# Altium footprint library HUB_PcbLib1.PcbLib: 7 footprints
Each footprint in its own frame and in the unit in brackets; x right, y up, seen from the top. Pads: shape width x height; smd on the part's side, far side on the other; paste and mask are expansions set on the pad; w line width, h text height; cw(c..) or ccw(c..) is an arc to the next point about the centre after c.
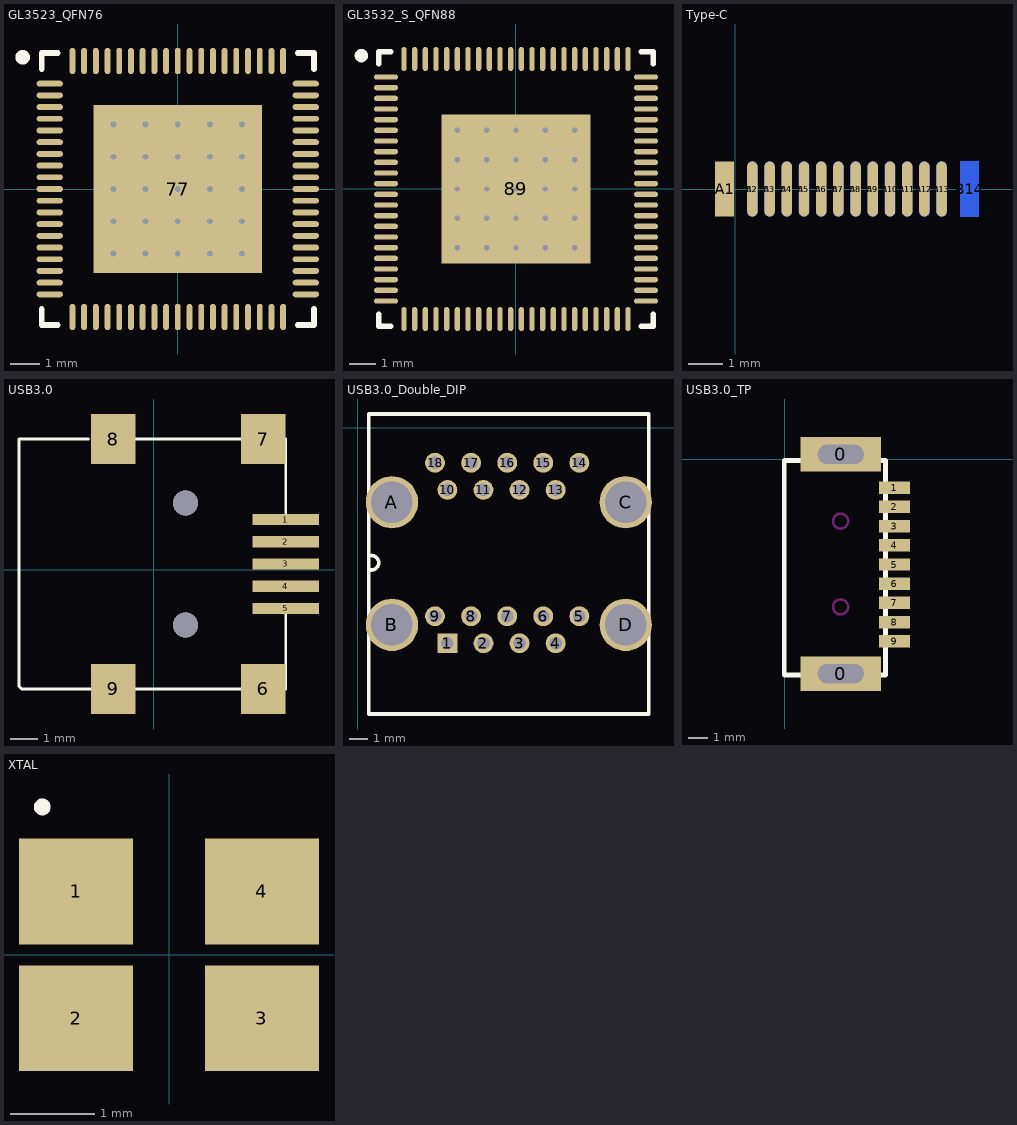
[diagram p0: the footprints below, top view; thin cyan lines are the x and y axes]

## GL3523_QFN76 [mm] "QFN, 76-Leads, Body 9.00x9.00mm, Pitch 0.40mm, Thermal Pad 5.75x5.75mm, IPC Medium Density"
height 0.9
pads (77):
  oval 0.9x0.2 smd: 1(-4.375,3.6) 2(-4.375,3.2) 3(-4.375,2.8) 4(-4.375,2.4) 5(-4.375,2) 6(-4.375,1.6) 7(-4.375,1.2) 8(-4.375,0.8) 9(-4.375,0.4) 10(-4.375,0) 11(-4.375,-0.4) 12(-4.375,-0.8) 13(-4.375,-1.2) 14(-4.375,-1.6) 15(-4.375,-2) 16(-4.375,-2.4) 17(-4.375,-2.8) 18(-4.375,-3.2) 19(-4.375,-3.6) 39(4.375,-3.6) 40(4.375,-3.2) 41(4.375,-2.8) 42(4.375,-2.4) 43(4.375,-2) 44(4.375,-1.6) 45(4.375,-1.2) 46(4.375,-0.8) 47(4.375,-0.4) 48(4.375,0) 49(4.375,0.4) 50(4.375,0.8) 51(4.375,1.2) 52(4.375,1.6) 53(4.375,2) 54(4.375,2.4) 55(4.375,2.8) 56(4.375,3.2) 57(4.375,3.6)
  oval 0.2x0.9 smd: 20(-3.6,-4.375) 21(-3.2,-4.375) 22(-2.8,-4.375) 23(-2.4,-4.375) 24(-2,-4.375) 25(-1.6,-4.375) 26(-1.2,-4.375) 27(-0.8,-4.375) 28(-0.4,-4.375) 29(0,-4.375) 30(0.4,-4.375) 31(0.8,-4.375) 32(1.2,-4.375) 33(1.6,-4.375) 34(2,-4.375) 35(2.4,-4.375) 36(2.8,-4.375) 37(3.2,-4.375) 38(3.6,-4.375) 58(3.6,4.375) 59(3.2,4.375) 60(2.8,4.375) 61(2.4,4.375) 62(2,4.375) 63(1.6,4.375) 64(1.2,4.375) 65(0.8,4.375) 66(0.4,4.375) 67(0,4.375) 68(-0.4,4.375) 69(-0.8,4.375) 70(-1.2,4.375) 71(-1.6,4.375) 72(-2,4.375) 73(-2.4,4.375) 74(-2.8,4.375) 75(-3.2,4.375) 76(-3.6,4.375)
  rect 5.75x5.75 smd: 77(0,0)
via -2.2,2.2 diameter 0.5 hole 0.2
via -1.1,2.2 diameter 0.5 hole 0.2
via 0,2.2 diameter 0.5 hole 0.2
via 1.1,2.2 diameter 0.5 hole 0.2
via 2.2,2.2 diameter 0.5 hole 0.2
via -2.2,1.1 diameter 0.5 hole 0.2
via -1.1,1.1 diameter 0.5 hole 0.2
via 0,1.1 diameter 0.5 hole 0.2
via 1.1,1.1 diameter 0.5 hole 0.2
via 2.2,1.1 diameter 0.5 hole 0.2
via -2.2,0 diameter 0.5 hole 0.2
via -1.1,0 diameter 0.5 hole 0.2
via 0,0 diameter 0.5 hole 0.2
via 1.1,0 diameter 0.5 hole 0.2
via 2.2,0 diameter 0.5 hole 0.2
via -2.2,-1.1 diameter 0.5 hole 0.2
via -1.1,-1.1 diameter 0.5 hole 0.2
via 0,-1.1 diameter 0.5 hole 0.2
via 1.1,-1.1 diameter 0.5 hole 0.2
via 2.2,-1.1 diameter 0.5 hole 0.2
via -2.2,-2.2 diameter 0.5 hole 0.2
via -1.1,-2.2 diameter 0.5 hole 0.2
via 0,-2.2 diameter 0.5 hole 0.2
via 1.1,-2.2 diameter 0.5 hole 0.2
via 2.2,-2.2 diameter 0.5 hole 0.2
Top Overlay:
  circle w0.25: c-5.3,4.5 r0.125
  lines w0.2: -4.65,-4.1 -4.65,-4.65 -4.1,-4.65 ; -4.65,4.1 -4.65,4.65 -4.1,4.65 ; 4.1,-4.65 4.65,-4.65 4.65,-4.1 ; 4.1,4.65 4.65,4.65 4.65,4.1

## GL3532_S_QFN88 [mm] "QFN, 88-Leads, Body 10.00x10.00mm, Pitch 0.40mm, Thermal Pad 5.60x5.60mm, IPC Medium Density"
height 0.75
pads (89):
  oval 0.9x0.2 smd: 1(-4.875,4.2) 2(-4.875,3.8) 3(-4.875,3.4) 4(-4.875,3) 5(-4.875,2.6) 6(-4.875,2.2) 7(-4.875,1.8) 8(-4.875,1.4) 9(-4.875,1) 10(-4.875,0.6) 11(-4.875,0.2) 12(-4.875,-0.2) 13(-4.875,-0.6) 14(-4.875,-1) 15(-4.875,-1.4) 16(-4.875,-1.8) 17(-4.875,-2.2) 18(-4.875,-2.6) 19(-4.875,-3) 20(-4.875,-3.4) 21(-4.875,-3.8) 22(-4.875,-4.2) 45(4.875,-4.2) 46(4.875,-3.8) 47(4.875,-3.4) 48(4.875,-3) 49(4.875,-2.6) 50(4.875,-2.2) 51(4.875,-1.8) 52(4.875,-1.4) 53(4.875,-1) 54(4.875,-0.6) 55(4.875,-0.2) 56(4.875,0.2) 57(4.875,0.6) 58(4.875,1) 59(4.875,1.4) 60(4.875,1.8) 61(4.875,2.2) 62(4.875,2.6) 63(4.875,3) 64(4.875,3.4) 65(4.875,3.8) 66(4.875,4.2)
  oval 0.2x0.9 smd: 23(-4.2,-4.875) 24(-3.8,-4.875) 25(-3.4,-4.875) 26(-3,-4.875) 27(-2.6,-4.875) 28(-2.2,-4.875) 29(-1.8,-4.875) 30(-1.4,-4.875) 31(-1,-4.875) 32(-0.6,-4.875) 33(-0.2,-4.875) 34(0.2,-4.875) 35(0.6,-4.875) 36(1,-4.875) 37(1.4,-4.875) 38(1.8,-4.875) 39(2.2,-4.875) 40(2.6,-4.875) 41(3,-4.875) 42(3.4,-4.875) 43(3.8,-4.875) 44(4.2,-4.875) 67(4.2,4.875) 68(3.8,4.875) 69(3.4,4.875) 70(3,4.875) 71(2.6,4.875) 72(2.2,4.875) 73(1.8,4.875) 74(1.4,4.875) 75(1,4.875) 76(0.6,4.875) 77(0.2,4.875) 78(-0.2,4.875) 79(-0.6,4.875) 80(-1,4.875) 81(-1.4,4.875) 82(-1.8,4.875) 83(-2.2,4.875) 84(-2.6,4.875) 85(-3,4.875) 86(-3.4,4.875) 87(-3.8,4.875) 88(-4.2,4.875)
  rect 5.6x5.6 smd: 89(0,0)
via 2.2,-2.2 diameter 0.5 hole 0.2
via 1.1,-2.2 diameter 0.5 hole 0.2
via 0,-2.2 diameter 0.5 hole 0.2
via -1.1,-2.2 diameter 0.5 hole 0.2
via -2.2,-2.2 diameter 0.5 hole 0.2
via 2.2,-1.1 diameter 0.5 hole 0.2
via 1.1,-1.1 diameter 0.5 hole 0.2
via 0,-1.1 diameter 0.5 hole 0.2
via -1.1,-1.1 diameter 0.5 hole 0.2
via -2.2,-1.1 diameter 0.5 hole 0.2
via 2.2,0 diameter 0.5 hole 0.2
via 1.1,0 diameter 0.5 hole 0.2
via 0,0 diameter 0.5 hole 0.2
via -1.1,0 diameter 0.5 hole 0.2
via -2.2,0 diameter 0.5 hole 0.2
via 2.2,1.1 diameter 0.5 hole 0.2
via 1.1,1.1 diameter 0.5 hole 0.2
via 0,1.1 diameter 0.5 hole 0.2
via -1.1,1.1 diameter 0.5 hole 0.2
via -2.2,1.1 diameter 0.5 hole 0.2
via 2.2,2.2 diameter 0.5 hole 0.2
via 1.1,2.2 diameter 0.5 hole 0.2
via 0,2.2 diameter 0.5 hole 0.2
via -1.1,2.2 diameter 0.5 hole 0.2
via -2.2,2.2 diameter 0.5 hole 0.2
Top Overlay:
  circle w0.25: c-5.8,5 r0.125
  lines w0.2: -5.15,-4.7 -5.15,-5.15 -4.7,-5.15 ; -5.15,4.7 -5.15,5.15 -4.7,5.15 ; 4.7,-5.15 5.15,-5.15 5.15,-4.7 ; 4.7,5.15 5.15,5.15 5.15,4.7

## Type-C [mm]
pads (26):
  rect 0.55x1.6 smd: A1(-0.31,0)
  oval 0.3x1.6 smd: A2(0.5,0) A3(1,0) A4(1.5,0) A5(2,0) A6(2.5,0) A7(3,0) A8(3.5,0) A9(4,0) A10(4.5,0) A11(5,0) A12(5.5,0) A13(6,0)
  oval 0.3x1.6 smd far side: B2(0.5,0) B3(1,0) B4(1.5,0) B5(2,0) B6(2.5,0) B7(3,0) B8(3.5,0) B9(4,0) B10(4.5,0) B11(5,0) B12(5.5,0) B13(6,0)
  rect 0.55x1.6 smd far side: B14(6.81,0)

## USB3.0 [mm]
pads (9):
  rect 2.4x0.4 smd: 1(4.751,1.803) 2(4.751,1.003) 3(4.751,0.203) 4(4.751,-0.597) 5(4.751,-1.397)
  rect 1.6x1.8 smd: 6(3.951,-4.297) 7(3.951,4.703) 8(-1.449,4.703) 9(-1.449,-4.297)
via 1.151,2.403 diameter 0.9 hole 0.9
via 1.151,-1.997 diameter 0.9 hole 0.9
Top Overlay:
  lines w0.1: -2.349,4.703 -4.849,4.703 -4.849,-4.197 -4.749,-4.297 -2.249,-4.297 ; -0.649,-4.297 3.151,-4.297 ; -0.649,4.703 3.151,4.703 ; 4.751,-4.297 4.751,-1.597 ; 4.751,2.003 4.751,4.703

## USB3.0_Double_DIP [mm]
pads (22):
  rect 1.1x1.1 hole 0.7: 1(4.975,-11.955)
  round 1.1 hole 0.7: 2(6.975,-11.955) 3(8.975,-11.955) 4(10.975,-11.955) 5(12.289,-10.455) 6(10.289,-10.455) 7(8.289,-10.455) 8(6.289,-10.455) 9(4.289,-10.455) 10(4.975,-3.455) 11(6.975,-3.455) 12(8.975,-3.455) 13(10.975,-3.455) 14(12.289,-1.955) 15(10.289,-1.955) 16(8.289,-1.955) 17(6.289,-1.955) 18(4.289,-1.955)
  round 2.9 hole 2.3: A(1.905,-4.138) B(1.905,-10.938) C(14.859,-4.138) D(14.859,-10.938)
Top Overlay:
  lines w0.2: 0.625,0.75 16.129,0.75 16.129,-15.875 0.615,-15.875 0.615,0.75 1.375,0.75 ; 0.718,-7.895 ccw(c0.762,-7.493) 0.784,-7.09

## USB3.0_TP [mm]
pads (11):
  rect 4.2x1.8 hole 1 slot 2.4 at 0 deg: 0(2.921,-11.176) 0(2.921,0.254)
  rect 1.6x0.65 smd: 1(5.715,-1.487) 2(5.715,-2.487) 3(5.715,-3.487) 4(5.715,-4.487) 5(5.715,-5.487) 6(5.715,-6.487) 7(5.715,-7.487) 8(5.715,-8.487) 9(5.715,-9.487)
Top Overlay:
  lines w0.254: -0.026,-11.252 5.258,-11.252 5.258,-0.063 -0.026,-0.063 -0.026,-11.252
Keep-Out Layer:
  circle w0.127: c2.912,-7.696 r0.39
  circle w0.127: c2.912,-3.226 r0.39

## XTAL [mm] "DFN, 4-Leads, Body 2.50x3.20mm, Pitch 2.20mm, IPC Medium Density"
height 0.75
pads (4):
  rect 1.35x1.25 smd: 1(-1.1,0.75) 2(-1.1,-0.75) 3(1.1,-0.75) 4(1.1,0.75)
Top Overlay:
  circle w0.1: c-1.5,1.75 r0.05